# EAGLE library part MAXIM_INTEGRATED_MAX30100 (library Upverter Library)
Pulse Oximeter and Heart-Rate Sensor IC for Wearable Health
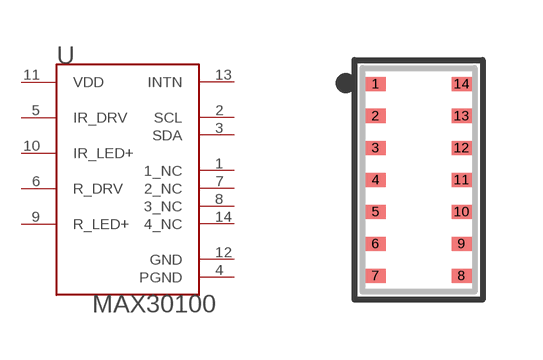
[diagram p0: symbol with the pads of MAXIM_INTEGRATED_MAX30100_0; footprint MAXIM_INTEGRATED_MAX30100_0]

Designator prefix U

## MAXIM_INTEGRATED_MAX30100MAXIM_INTEGRATED_MAX30100_0_0 (MF: Maxim Integrated; MPN: MAX30100; datasheet: https://datasheets.maximintegrated.com/en/ds/MAX30100.pdf; digikey_description: IC; lead_free: Yes; mfg_package_ident: 90-0461; package: SMT_MAX30100; prefix: U; rohs: Yes)  [MAXIM_INTEGRATED_MAX30100_0]
1  1_NC
2  SCL
3  SDA
4  PGND
5  IR_DRV
6  R_DRV
7  2_NC
8  3_NC
9  R_LED+
10  IR_LED+
11  VDD
12  GND
13  INTN
14  4_NC

## Footprint MAXIM_INTEGRATED_MAX30100_0 (pad centres in mm)
Pulse Oximeter and Heart-Rate Sensor IC for Wearable Health
smd 0.5 x 0.35: 1 -1.075,2.4; 2 -1.075,1.6; 3 -1.075,0.8; 4 -1.075,0; 5 -1.075,-0.8; 6 -1.075,-1.6; 7 -1.075,-2.4; 8 1.075,-2.4; 9 1.075,-1.6; 10 1.075,-0.8; 11 1.075,0; 12 1.075,0.8; 13 1.075,1.6; 14 1.075,2.4